# Altium schematic symbol library SCH - CONNECTORS - MOLEX 43045-0221.Schlib: 1 symbol
Pins are listed as number, name and electrical type; pins without a type are passive.

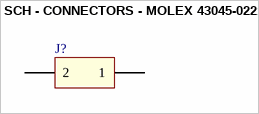
[diagram p0: symbol SCH - CONNECTORS - MOLEX 43045-0221]

## SCH - CONNECTORS - MOLEX 43045-0221
designator J?
pins: 1, 2